# Altium schematic symbol library myTransistors&Diodes.SchLib: 28 symbols
Pins are listed as number, name and electrical type; pins without a type are passive.

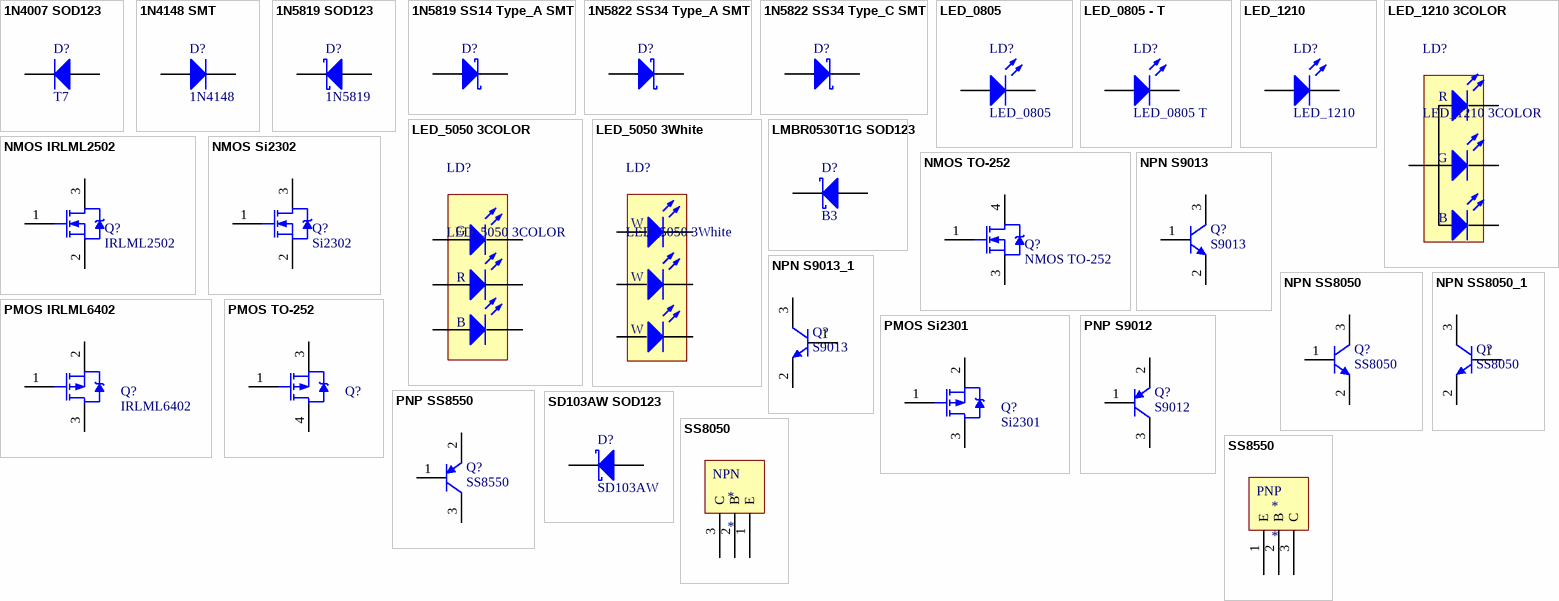
[diagram p0: symbols 1N4007 SOD123 to SS8550]

## 1N4007 SOD123
designator D?, comment T7
1N4007, SOD123, 0.3-2.0A; Published: 8-Jun-2000; LatestRevisionDate: 17-Jul-2002; LatestRevisionNote: Re-released for DXP Platform.; PackageVersion: Sep-1996; PackageReference: SMC; Publisher: Altium Limited; Code_JEDEC: DO-214-AB
footprint Diode SOD-123
pins: 1 K, 2 A

## 1N4148 SMT
designator D?, comment 1N4148
1N4148 SMT; Published: 8-Jun-2000; LatestRevisionDate: 17-Jul-2002; LatestRevisionNote: Re-released for DXP Platform.; PackageVersion: Sep-1996; PackageReference: SMC; Publisher: Altium Limited; Code_JEDEC: DO-214-AB
footprint 1N4148 SMT
pins: 1 A, 2 K

## 1N5819 SOD123
designator D?, comment 1N5819
1N5819, Schottky Diode, SOD123, 0.3-1A; Published: 8-Jun-2000; LatestRevisionDate: 17-Jul-2002; LatestRevisionNote: Re-released for DXP Platform.; PackageReference: SMB; Publisher: Altium Limited; Code_JEDEC: DO-214-AA
footprint Diode SOD-123
pins: 1 K, 2 A

## 1N5819 SS14 Type_A SMT
designator D?, comment SS14  (value not drawn)
1N5819 SS14 Type_A SMT; Published: 8-Jun-2000; LatestRevisionDate: 17-Jul-2002; LatestRevisionNote: Re-released for DXP Platform.; PackageReference: SMB; Publisher: Altium Limited; Code_JEDEC: DO-214-AA
footprint 1N5819 SS14 Type_A SMT
pins: 1 A, 2 K

## 1N5822 SS34 Type_A SMT
designator D?, comment SS34_A  (value not drawn)
1N5822 SS34 Type_A SMT; Published: 8-Jun-2000; LatestRevisionDate: 17-Jul-2002; LatestRevisionNote: Re-released for DXP Platform.; PackageReference: SMB; Publisher: Altium Limited; Code_JEDEC: DO-214-AA
footprint 1N5822 SS34 Type_A SMT
pins: 1 A, 2 K

## 1N5822 SS34 Type_C SMT
designator D?, comment SS34_C  (value not drawn)
1N5822 SS34 Type_C SMT; Published: 8-Jun-2000; LatestRevisionDate: 17-Jul-2002; LatestRevisionNote: Re-released for DXP Platform.; PackageReference: SMB; Publisher: Altium Limited; Code_JEDEC: DO-214-AA
footprint 1N5822 SS34 Type_C SMT
pins: 1 A, 2 K

## LED_0805
designator LD?
LED 0805; Published: 8-Jun-2000; LatestRevisionDate: 08-Jul-2005; LatestRevisionNote: Mech Layer 1 removed.; PackageReference: LED-0; Publisher: Altium Limited
footprint LED_0805
pins: 1 A, 2 K

## LED_0805 - T
designator LD?, comment LED_0805 T
LED 0805 T; Published: 8-Jun-2000; LatestRevisionDate: 08-Jul-2005; LatestRevisionNote: Mech Layer 1 removed.; PackageReference: LED-0; Publisher: Altium Limited
footprint LED_0805 - T
pins: 1 A, 2 K

## LED_1210
designator LD?
LED 1210; Published: 8-Jun-2000; LatestRevisionDate: 08-Jul-2005; LatestRevisionNote: Mech Layer 1 removed.; PackageReference: LED-0; Publisher: Altium Limited
footprint LED_1210
pins: 1 A, 2 K

## LED_1210 3COLOR
designator LD?
LED 1210 3-Color; Published: 8-Jun-2000; LatestRevisionDate: 08-Jul-2005; LatestRevisionNote: Mech Layer 1 removed.; PackageReference: LED-0; Publisher: Altium Limited
footprint LED_1210 3Color
pins: 1 K, 2 K, 3 K, 4 A
text: R; G; B

## LED_5050 3COLOR
designator LD?
LED 5050 3-Color; Published: 8-Jun-2000; LatestRevisionDate: 08-Jul-2005; LatestRevisionNote: Mech Layer 1 removed.; PackageReference: LED-0; Publisher: Altium Limited
footprint LED_5050 3Color
pins: 1 K, 2 K, 3 K, 4 A, 5 A, 6 A
text: G; R; B

## LED_5050 3White
designator LD?
LED 5050 3WHITE; Published: 8-Jun-2000; LatestRevisionDate: 08-Jul-2005; LatestRevisionNote: Mech Layer 1 removed.; PackageReference: LED-0; Publisher: Altium Limited
footprint LED_5050 3Color
pins: 1 K, 2 K, 3 K, 4 A, 5 A, 6 A
text: W

## LMBR0530T1G SOD123
designator D?, comment B3
LMBR0530T1G, Schottky Diode, SOD123, 0.5-5.5A; Published: 8-Jun-2000; LatestRevisionDate: 17-Jul-2002; LatestRevisionNote: Re-released for DXP Platform.; PackageReference: SMB; Publisher: Altium Limited; Code_JEDEC: DO-214-AA
footprint Diode SOD-123
pins: 1 K, 2 A

## NMOS IRLML2502
designator Q?, comment IRLML2502
NMOS IRLML2502, 20V 3.4A, SOT-23; Published: 8-Jun-2000; LatestRevisionDate: 17-Jul-2002; LatestRevisionNote: Re-released for DXP Platform.; PackageVersion: 1995/1996; PackageReference: E3; Publisher: Altium Limited
footprint TR_SOT-23 (SOT23, 3-Leads, Body 2.9x1.3mm, Pitch 0.95mm, Lead Span 2.5mm, IPC Low Density)
pins: 1 G, 2 S, 3 D

## NMOS Si2302
designator Q?, comment Si2302
NMOS Si2302, 20V 2.4A, SOT-23; Published: 8-Jun-2000; LatestRevisionDate: 17-Jul-2002; LatestRevisionNote: Re-released for DXP Platform.; PackageVersion: 1995/1996; PackageReference: E3; Publisher: Altium Limited
footprint TR_SOT-23 (SOT23, 3-Leads, Body 2.9x1.3mm, Pitch 0.95mm, Lead Span 2.5mm, IPC Low Density)
pins: 1 G, 2 S, 3 D

## NMOS TO-252
designator Q?
Published: 8-Jun-2000; LatestRevisionDate: 17-Jul-2002; LatestRevisionNote: Re-released for DXP Platform.; PackageVersion: 1995/1996; PackageReference: E3; Publisher: Altium Limited
footprint TR_TO-252 (D-PAK/TO-252-AA; 3 Leads (1 Cropped); Body 10.4 (inc. leads) x 6.7 mm (LxW max))
pins: 1 G, 3 S, 4 D

## NPN S9013
designator Q?, comment S9013
NPN S9013, 30V 0.5A, SOT-23; Published: 8-Jun-2000; LatestRevisionDate: 17-Jul-2002; LatestRevisionNote: Re-released for DXP Platform.; PackageReference: TO-226; Publisher: Altium Limited; Code_JEDEC: TO-226-AA
footprint TR_SOT-23 (SOT23, 3-Leads, Body 2.9x1.3mm, Pitch 0.95mm, Lead Span 2.5mm, IPC Low Density)
pins: 1 B, 2 E, 3 C

## NPN S9013_1
designator Q?, comment S9013
NPN S9013, 30V 0.5A, SOT-23; Published: 8-Jun-2000; LatestRevisionDate: 17-Jul-2002; LatestRevisionNote: Re-released for DXP Platform.; PackageReference: TO-226; Publisher: Altium Limited; Code_JEDEC: TO-226-AA
footprint TR_SOT-23 (SOT23, 3-Leads, Body 2.9x1.3mm, Pitch 0.95mm, Lead Span 2.5mm, IPC Low Density)
pins: 1 B, 2 E, 3 C

## NPN SS8050
designator Q?, comment SS8050
NPN SS8050, 25V 1.5A, SOT-23; Published: 8-Jun-2000; LatestRevisionDate: 17-Jul-2002; LatestRevisionNote: Re-released for DXP Platform.; PackageReference: TO-226; Publisher: Altium Limited; Code_JEDEC: TO-226-AA
footprint TR_SOT-23 (SOT23, 3-Leads, Body 2.9x1.3mm, Pitch 0.95mm, Lead Span 2.5mm, IPC Low Density)
pins: 1 B, 2 E, 3 C

## NPN SS8050_1
designator Q?, comment SS8050
NPN SS8050, 25V 1.5A, SOT-23; Published: 8-Jun-2000; LatestRevisionDate: 17-Jul-2002; LatestRevisionNote: Re-released for DXP Platform.; PackageReference: TO-226; Publisher: Altium Limited; Code_JEDEC: TO-226-AA
footprint TR_SOT-23 (SOT23, 3-Leads, Body 2.9x1.3mm, Pitch 0.95mm, Lead Span 2.5mm, IPC Low Density)
pins: 1 B, 2 E, 3 C

## PMOS IRLML6402
designator Q?, comment IRLML6402
PMOS IRLML6402, -20V -2.2A, SOT-23; Note: Pin 4 not drawn and electrically connected to Pin 2.; Published: 8-Jun-2000; LatestRevisionDate: 17-Jul-2002; LatestRevisionNote: Re-released for DXP Platform.; DatasheetVersion: PD-9.390D; PackageReference: TO-220AB; Publisher: Altium Limited; Code_JEDEC: TO-220-AB; ComponentLink1Description: Manufacturer Link; ComponentLink1URL: http://www.irf.com/
footprint TR_SOT-23 (SOT23, 3-Leads, Body 2.9x1.3mm, Pitch 0.95mm, Lead Span 2.5mm, IPC Low Density)
pins: 1 G, 2 S, 3 D

## PMOS Si2301
designator Q?, comment Si2301
PMOS Si2301, -20V -1.9A, SOT-23; Note: Pin 4 not drawn and electrically connected to Pin 2.; Published: 8-Jun-2000; LatestRevisionDate: 17-Jul-2002; LatestRevisionNote: Re-released for DXP Platform.; DatasheetVersion: PD-9.390D; PackageReference: TO-220AB; Publisher: Altium Limited; Code_JEDEC: TO-220-AB; ComponentLink1Description: Manufacturer Link; ComponentLink1URL: http://www.irf.com/
footprint TR_SOT-23 (SOT23, 3-Leads, Body 2.9x1.3mm, Pitch 0.95mm, Lead Span 2.5mm, IPC Low Density)
pins: 1 G, 2 S, 3 D

## PMOS TO-252
designator Q?  (value not drawn)
PMOS TO-252; Note: Pin 4 not drawn and electrically connected to Pin 2.; Published: 8-Jun-2000; LatestRevisionDate: 17-Jul-2002; LatestRevisionNote: Re-released for DXP Platform.; DatasheetVersion: PD-9.390D; PackageReference: TO-220AB; Publisher: Altium Limited; Code_JEDEC: TO-220-AB; ComponentLink1Description: Manufacturer Link; ComponentLink1URL: http://www.irf.com/
footprint TR_TO-252 (D-PAK/TO-252-AA; 3 Leads (1 Cropped); Body 10.4 (inc. leads) x 6.7 mm (LxW max))
pins: 1 G, 3 S, 4 D

## PNP S9012
designator Q?, comment S9012
PNP S9012 -30V -0.5A, SOT-23; Published: 8-Jun-2000; LatestRevisionDate: 29-May-2009; LatestRevisionNote: IPC-7351 Footprint Added.; PackageVersion: Aug-1999; PackageReference: SOT-23B; Publisher: Altium Limited; PackageDescription: 3-Pin SOT-23 Package 0.95 mm Pitch, 2.4 mm Lead Span
footprint TR_SOT-23 (SOT23, 3-Leads, Body 2.9x1.3mm, Pitch 0.95mm, Lead Span 2.5mm, IPC Low Density)
pins: 1 B, 2 E, 3 C

## PNP SS8550
designator Q?, comment SS8550
PNP SS8550, -25V -1.5A, SOT-23; Published: 8-Jun-2000; LatestRevisionDate: 29-May-2009; LatestRevisionNote: IPC-7351 Footprint Added.; PackageVersion: Aug-1999; PackageReference: SOT-23B; Publisher: Altium Limited; PackageDescription: 3-Pin SOT-23 Package 0.95 mm Pitch, 2.4 mm Lead Span
footprint TR_SOT-23 (SOT23, 3-Leads, Body 2.9x1.3mm, Pitch 0.95mm, Lead Span 2.5mm, IPC Low Density)
pins: 1 B, 2 E, 3 C

## SD103AW SOD123
designator D?, comment SD103AW
SD103AW, Schottky Diode, SOD123, 40V, 0.35-2A; Published: 8-Jun-2000; LatestRevisionDate: 17-Jul-2002; LatestRevisionNote: Re-released for DXP Platform.; PackageReference: SMB; Publisher: Altium Limited; Code_JEDEC: DO-214-AA
footprint Diode SOD-123
pins: 1 K, 2 A

## SS8050
designator *
footprint SS8050 (NPN)
pins: 1 E, 2 B, 3 C
text: NPN

## SS8550
designator *
footprint SS8550 (PNP)
pins: 1 E, 2 B, 3 C
text: PNP